# Altium integrated library TI Amplifiers and Linear Operational Amplifier Precision Amplifier Part Two.IntLib: 2300 symbols (part 26 of 81)
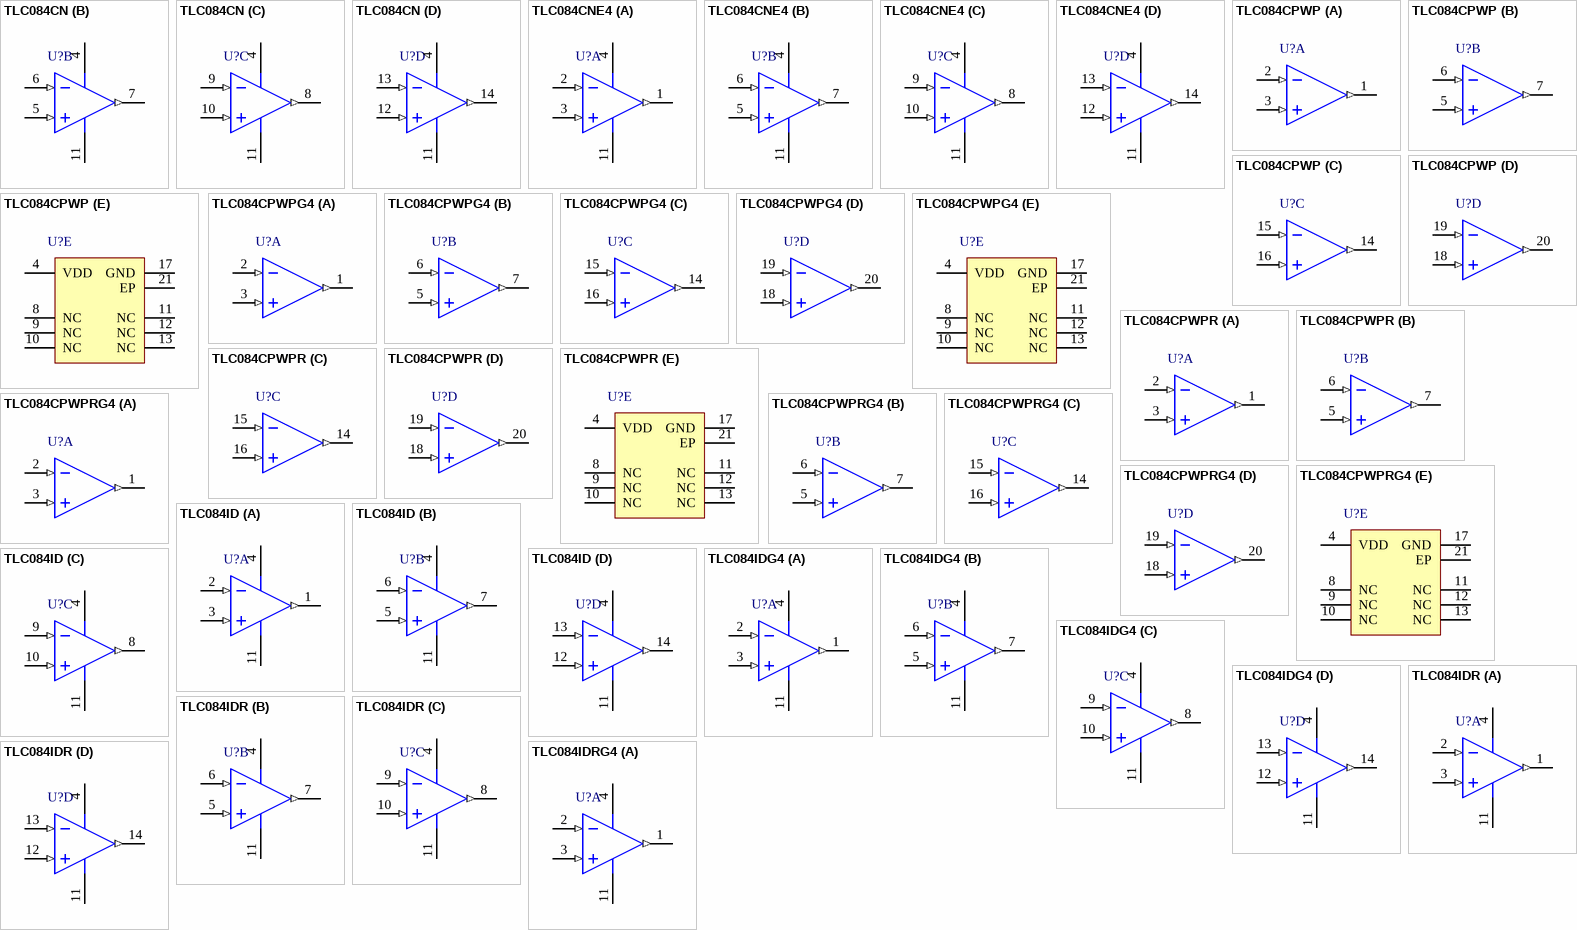
[diagram p161: symbols TLC084CN to TLC084IDRG4]

## TLC084CN
designator U?
Quad Wide Bandwidth High Output Drive Single Supply Operational Amplifier, 4.5 to 16 V, 0 to 70 degC, 14-pin DIP (N14), Pb-Free (RoHS); Manufacturer: Texas Instruments; PartNumber: TLC084CN; CMRR(Min)(dB): 80; GBW(Typ)(MHz): 10; IIB(Max)(pA): 50; Iq per channel(Max)(mA): 2.5; Number of Channels: 4; Offset Drift(Typ)(uV/C): 1.2; Packing: TUBE; Rating: Catalog; Slew Rate(Typ)(V/us): 16; Sub Family: High Output Current Amplifier (>=50mA), Low Noise Amp (<=10nV/rtHz), Precision Amplifier; Total Supply Voltage(Min)(+5V is 5, +/-5V is 10): 4.5; Vio (25C)(Max)(mV): 1.9; DatasheetVersion: SLOS254F; PackageVersion: 4040049/E, 12/2002; PackageReference: N14; PackageDescription: 14-Pin Plastic In-Line, Body 19.305 x 6.35 mm, Pitch 2.54 mm; Supplier 1: Digi-Key; Supplier Part Number 1: 296-7283-5-ND; Supplier 2: Newark; Supplier Part Number 2: 76C6770; Supplier 3: Mouser; Supplier Part Number 3: 595-TLC084CN; Eco-Plan: Pb-Free (RoHS); Total Supply Voltage(Max)(+5V is 5, +/-5V is 10): 16; Mounting Technology: Through Hole; Code_JEDEC: MS-001; ComponentLink1Description: Manufacturer URL; ComponentLink1URL: http://www.ti.com/; ComponentLink2Description: Datasheet; ComponentLink2URL: http://www.ti.com/lit/ds/symlink/tlc084.pdf; ComponentLink3Description: Package Specification; ComponentLink3URL: http://www.ti.com/lit/ml/mpdi002c/mpdi002c.pdf
footprint TI-N14 (DIP, 14-Leads, Body 19.305x6.35 mm, Pitch 2.54 mm)
pins on every part: 4 VDD (power), 11 GND (power)
part A pins: 1 OUT1 (out), 2 IN1- (in), 3 IN1+ (in)
part B pins: 5 IN2+ (in), 6 IN2- (in), 7 OUT2 (out)
part C pins: 8 OUT3 (out), 9 IN3- (in), 10 IN3+ (in)
part D pins: 12 IN4+ (in), 13 IN4- (in), 14 OUT4 (out)

## TLC084CNE4
designator U?
Quad Wide Bandwidth High Output Drive Single Supply Operational Amplifier, 4.5 to 16 V, 0 to 70 degC, 14-pin DIP (N14), Pb-Free (RoHS); Manufacturer: Texas Instruments; PartNumber: TLC084CNE4; CMRR(Min)(dB): 80; GBW(Typ)(MHz): 10; IIB(Max)(pA): 50; Iq per channel(Max)(mA): 2.5; Number of Channels: 4; Offset Drift(Typ)(uV/C): 1.2; Packing: TUBE; Rating: Catalog; Slew Rate(Typ)(V/us): 16; Sub Family: High Output Current Amplifier (>=50mA), Low Noise Amp (<=10nV/rtHz), Precision Amplifier; Total Supply Voltage(Min)(+5V is 5, +/-5V is 10): 4.5; Vio (25C)(Max)(mV): 1.9; DatasheetVersion: SLOS254F; PackageVersion: 4040049/E, 12/2002; PackageReference: N14; PackageDescription: 14-Pin Plastic In-Line, Body 19.305 x 6.35 mm, Pitch 2.54 mm; Supplier 1: Digi-Key; Supplier Part Number 1: TLC084CNE4-ND; Supplier 2: Mouser; Supplier Part Number 2: 595-TLC084CNE4; Eco-Plan: Pb-Free (RoHS); Total Supply Voltage(Max)(+5V is 5, +/-5V is 10): 16; Mounting Technology: Through Hole; Code_JEDEC: MS-001; ComponentLink1Description: Manufacturer URL; ComponentLink1URL: http://www.ti.com/; ComponentLink2Description: Datasheet; ComponentLink2URL: http://www.ti.com/lit/ds/symlink/tlc084.pdf; ComponentLink3Description: Package Specification; ComponentLink3URL: http://www.ti.com/lit/ml/mpdi002c/mpdi002c.pdf
footprint TI-N14 (DIP, 14-Leads, Body 19.305x6.35 mm, Pitch 2.54 mm)
pins on every part: 4 VDD (power), 11 GND (power)
part A pins: 1 OUT1 (out), 2 IN1- (in), 3 IN1+ (in)
part B pins: 5 IN2+ (in), 6 IN2- (in), 7 OUT2 (out)
part C pins: 8 OUT3 (out), 9 IN3- (in), 10 IN3+ (in)
part D pins: 12 IN4+ (in), 13 IN4- (in), 14 OUT4 (out)

## TLC084CPWP
designator U?
Quad Wide Bandwidth High Output Drive Single Supply Operational Amplifier, 4.5 to 16 V, 0 to 70 degC, 20-pin SOP (PWP20), Green (RoHS & no Sb/Br); Manufacturer: Texas Instruments; PartNumber: TLC084CPWP; CMRR(Min)(dB): 80; GBW(Typ)(MHz): 10; IIB(Max)(pA): 50; Iq per channel(Max)(mA): 2.5; Number of Channels: 4; Offset Drift(Typ)(uV/C): 1.2; Packing: TUBE; Rating: Catalog; Slew Rate(Typ)(V/us): 16; Sub Family: High Output Current Amplifier (>=50mA), Low Noise Amp (<=10nV/rtHz), Precision Amplifier; Total Supply Voltage(Min)(+5V is 5, +/-5V is 10): 4.5; Vio (25C)(Max)(mV): 1.9; DatasheetVersion: SLOS254F; PackageVersion: 4073225-4/I, 05/2011; PackageReference: PWP20-3005X2005TP; PackageDescription: 20-Pin Plastic Small Outline, Body 4.4 x 6.5 mm, Pitch 0.65 mm; Supplier 1: Digi-Key; Supplier Part Number 1: 296-7285-5-ND; Supplier 2: Mouser; Supplier Part Number 2: 595-TLC084CPWP; Eco-Plan: Green (RoHS & no Sb/Br); Total Supply Voltage(Max)(+5V is 5, +/-5V is 10): 16; Mounting Technology: Surface Mount; Code_JEDEC: MO-153; ComponentLink1Description: Manufacturer URL; ComponentLink1URL: http://www.ti.com/; ComponentLink2Description: Datasheet; ComponentLink2URL: http://www.ti.com/lit/ds/symlink/tlc084.pdf; ComponentLink3Description: Package Specification; ComponentLink3URL: http://www.ti.com/lit/ml/mhts001g/mhts001g.pdf
footprint TI-PWP20-3005X2005TP_N (SOP, 20-Leads, Body 6.5x4.4mm, Pitch 0.65mm, Thermal Pad 3.4x2.4mm, IPC Medium Density)
footprint TI-PWP20-3005X2005TP_L (SOP, 20-Leads, Body 6.5x4.4mm, Pitch 0.65mm, Thermal Pad 3.4x2.4mm, IPC High Density)
footprint TI-PWP20-3005X2005TP_M (SOP, 20-Leads, Body 6.5x4.4mm, Pitch 0.65mm, Thermal Pad 3.4x2.4mm, IPC Low Density)
part A pins: 1 OUT1 (out), 2 IN1- (in), 3 IN1+ (in)
part B pins: 5 IN2+ (in), 6 IN2- (in), 7 OUT2 (out)
part C pins: 14 OUT3 (out), 15 IN3- (in), 16 IN3+ (in)
part D pins: 18 IN4+ (in), 19 IN4- (in), 20 OUT4 (out)
part E pins: 4 VDD (power), 8 NC, 9 NC, 10 NC, 11 NC, 12 NC, 13 NC, 17 GND (power), 21 EP (power) "The PowerPAD must be connected to the most negative supply voltage (GND pin potential) of the device."

## TLC084CPWPG4
designator U?
Quad Wide Bandwidth High Output Drive Single Supply Operational Amplifier, 4.5 to 16 V, 0 to 70 degC, 20-pin SOP (PWP20), Green (RoHS & no Sb/Br); Manufacturer: Texas Instruments; PartNumber: TLC084CPWPG4; CMRR(Min)(dB): 80; GBW(Typ)(MHz): 10; IIB(Max)(pA): 50; Iq per channel(Max)(mA): 2.5; Number of Channels: 4; Offset Drift(Typ)(uV/C): 1.2; Packing: TUBE; Rating: Catalog; Slew Rate(Typ)(V/us): 16; Sub Family: High Output Current Amplifier (>=50mA), Low Noise Amp (<=10nV/rtHz), Precision Amplifier; Total Supply Voltage(Min)(+5V is 5, +/-5V is 10): 4.5; Vio (25C)(Max)(mV): 1.9; DatasheetVersion: SLOS254F; PackageVersion: 4073225-4/I, 05/2011; PackageReference: PWP20-3005X2005TP; PackageDescription: 20-Pin Plastic Small Outline, Body 4.4 x 6.5 mm, Pitch 0.65 mm; Supplier 1: Digi-Key; Supplier Part Number 1: TLC084CPWPG4-ND; Supplier 2: Mouser; Supplier Part Number 2: 595-TLC084CPWPG4; Eco-Plan: Green (RoHS & no Sb/Br); Total Supply Voltage(Max)(+5V is 5, +/-5V is 10): 16; Mounting Technology: Surface Mount; Code_JEDEC: MO-153; ComponentLink1Description: Manufacturer URL; ComponentLink1URL: http://www.ti.com/; ComponentLink2Description: Datasheet; ComponentLink2URL: http://www.ti.com/lit/ds/symlink/tlc084.pdf; ComponentLink3Description: Package Specification; ComponentLink3URL: http://www.ti.com/lit/ml/mhts001g/mhts001g.pdf
footprint TI-PWP20-3005X2005TP_N (SOP, 20-Leads, Body 6.5x4.4mm, Pitch 0.65mm, Thermal Pad 3.4x2.4mm, IPC Medium Density)
footprint TI-PWP20-3005X2005TP_L (SOP, 20-Leads, Body 6.5x4.4mm, Pitch 0.65mm, Thermal Pad 3.4x2.4mm, IPC High Density)
footprint TI-PWP20-3005X2005TP_M (SOP, 20-Leads, Body 6.5x4.4mm, Pitch 0.65mm, Thermal Pad 3.4x2.4mm, IPC Low Density)
part A pins: 1 OUT1 (out), 2 IN1- (in), 3 IN1+ (in)
part B pins: 5 IN2+ (in), 6 IN2- (in), 7 OUT2 (out)
part C pins: 14 OUT3 (out), 15 IN3- (in), 16 IN3+ (in)
part D pins: 18 IN4+ (in), 19 IN4- (in), 20 OUT4 (out)
part E pins: 4 VDD (power), 8 NC, 9 NC, 10 NC, 11 NC, 12 NC, 13 NC, 17 GND (power), 21 EP (power) "The PowerPAD must be connected to the most negative supply voltage (GND pin potential) of the device."

## TLC084CPWPR
designator U?
Quad Wide Bandwidth High Output Drive Single Supply Operational Amplifier, 4.5 to 16 V, 0 to 70 degC, 20-pin SOP (PWP20), Green (RoHS & no Sb/Br); Manufacturer: Texas Instruments; PartNumber: TLC084CPWPR; CMRR(Min)(dB): 80; GBW(Typ)(MHz): 10; IIB(Max)(pA): 50; Iq per channel(Max)(mA): 2.5; Number of Channels: 4; Offset Drift(Typ)(uV/C): 1.2; Packing: LARGE T&R; Rating: Catalog; Slew Rate(Typ)(V/us): 16; Sub Family: High Output Current Amplifier (>=50mA), Low Noise Amp (<=10nV/rtHz), Precision Amplifier; Total Supply Voltage(Min)(+5V is 5, +/-5V is 10): 4.5; Vio (25C)(Max)(mV): 1.9; DatasheetVersion: SLOS254F; PackageVersion: 4073225-4/I, 05/2011; PackageReference: PWP20-3005X2005TP; PackageDescription: 20-Pin Plastic Small Outline, Body 4.4 x 6.5 mm, Pitch 0.65 mm; Supplier 1: Digi-Key; Supplier Part Number 1: 296-7285-2-ND; Supplier 2: Digi-Key; Supplier Part Number 2: 296-7285-1-ND; Supplier 3: Digi-Key; Supplier Part Number 3: 296-7285-6-ND; Supplier 4: Mouser; Supplier Part Number 4: 595-TLC084CPWPR; Eco-Plan: Green (RoHS & no Sb/Br); Total Supply Voltage(Max)(+5V is 5, +/-5V is 10): 16; Mounting Technology: Surface Mount; Code_JEDEC: MO-153; ComponentLink1Description: Manufacturer URL; ComponentLink1URL: http://www.ti.com/; ComponentLink2Description: Datasheet; ComponentLink2URL: http://www.ti.com/lit/ds/symlink/tlc084.pdf; ComponentLink3Description: Package Specification; ComponentLink3URL: http://www.ti.com/lit/ml/mhts001g/mhts001g.pdf
footprint TI-PWP20-3005X2005TP_N (SOP, 20-Leads, Body 6.5x4.4mm, Pitch 0.65mm, Thermal Pad 3.4x2.4mm, IPC Medium Density)
footprint TI-PWP20-3005X2005TP_L (SOP, 20-Leads, Body 6.5x4.4mm, Pitch 0.65mm, Thermal Pad 3.4x2.4mm, IPC High Density)
footprint TI-PWP20-3005X2005TP_M (SOP, 20-Leads, Body 6.5x4.4mm, Pitch 0.65mm, Thermal Pad 3.4x2.4mm, IPC Low Density)
part A pins: 1 OUT1 (out), 2 IN1- (in), 3 IN1+ (in)
part B pins: 5 IN2+ (in), 6 IN2- (in), 7 OUT2 (out)
part C pins: 14 OUT3 (out), 15 IN3- (in), 16 IN3+ (in)
part D pins: 18 IN4+ (in), 19 IN4- (in), 20 OUT4 (out)
part E pins: 4 VDD (power), 8 NC, 9 NC, 10 NC, 11 NC, 12 NC, 13 NC, 17 GND (power), 21 EP (power) "The PowerPAD must be connected to the most negative supply voltage (GND pin potential) of the device."

## TLC084CPWPRG4
designator U?
Quad Wide Bandwidth High Output Drive Single Supply Operational Amplifier, 4.5 to 16 V, 0 to 70 degC, 20-pin SOP (PWP20), Green (RoHS & no Sb/Br); Manufacturer: Texas Instruments; PartNumber: TLC084CPWPRG4; CMRR(Min)(dB): 80; GBW(Typ)(MHz): 10; IIB(Max)(pA): 50; Iq per channel(Max)(mA): 2.5; Number of Channels: 4; Offset Drift(Typ)(uV/C): 1.2; Packing: LARGE T&R; Rating: Catalog; Slew Rate(Typ)(V/us): 16; Sub Family: High Output Current Amplifier (>=50mA), Low Noise Amp (<=10nV/rtHz), Precision Amplifier; Total Supply Voltage(Min)(+5V is 5, +/-5V is 10): 4.5; Vio (25C)(Max)(mV): 1.9; DatasheetVersion: SLOS254F; PackageVersion: 4073225-4/I, 05/2011; PackageReference: PWP20-3005X2005TP; PackageDescription: 20-Pin Plastic Small Outline, Body 4.4 x 6.5 mm, Pitch 0.65 mm; Supplier 1: Digi-Key; Supplier Part Number 1: TLC084CPWPRG4-ND; Supplier 2: Mouser; Supplier Part Number 2: 595-TLC084CPWPRG4; Eco-Plan: Green (RoHS & no Sb/Br); Total Supply Voltage(Max)(+5V is 5, +/-5V is 10): 16; Mounting Technology: Surface Mount; Code_JEDEC: MO-153; ComponentLink1Description: Manufacturer URL; ComponentLink1URL: http://www.ti.com/; ComponentLink2Description: Datasheet; ComponentLink2URL: http://www.ti.com/lit/ds/symlink/tlc084.pdf; ComponentLink3Description: Package Specification; ComponentLink3URL: http://www.ti.com/lit/ml/mhts001g/mhts001g.pdf
footprint TI-PWP20-3005X2005TP_N (SOP, 20-Leads, Body 6.5x4.4mm, Pitch 0.65mm, Thermal Pad 3.4x2.4mm, IPC Medium Density)
footprint TI-PWP20-3005X2005TP_L (SOP, 20-Leads, Body 6.5x4.4mm, Pitch 0.65mm, Thermal Pad 3.4x2.4mm, IPC High Density)
footprint TI-PWP20-3005X2005TP_M (SOP, 20-Leads, Body 6.5x4.4mm, Pitch 0.65mm, Thermal Pad 3.4x2.4mm, IPC Low Density)
part A pins: 1 OUT1 (out), 2 IN1- (in), 3 IN1+ (in)
part B pins: 5 IN2+ (in), 6 IN2- (in), 7 OUT2 (out)
part C pins: 14 OUT3 (out), 15 IN3- (in), 16 IN3+ (in)
part D pins: 18 IN4+ (in), 19 IN4- (in), 20 OUT4 (out)
part E pins: 4 VDD (power), 8 NC, 9 NC, 10 NC, 11 NC, 12 NC, 13 NC, 17 GND (power), 21 EP (power) "The PowerPAD must be connected to the most negative supply voltage (GND pin potential) of the device."

## TLC084ID
designator U?
Quad Wide Bandwidth High Output Drive Single Supply Operational Amplifier, 4.5 to 16 V, -40 to 125 degC, 14-pin SOIC (D14), Green (RoHS & no Sb/Br); Manufacturer: Texas Instruments; PartNumber: TLC084ID; CMRR(Min)(dB): 80; GBW(Typ)(MHz): 10; IIB(Max)(pA): 50; Iq per channel(Max)(mA): 2.5; Number of Channels: 4; Offset Drift(Typ)(uV/C): 1.2; Packing: TUBE; Rating: Catalog; Slew Rate(Typ)(V/us): 16; Sub Family: High Output Current Amplifier (>=50mA), Low Noise Amp (<=10nV/rtHz), Precision Amplifier; Total Supply Voltage(Min)(+5V is 5, +/-5V is 10): 4.5; Vio (25C)(Max)(mV): 1.9; DatasheetVersion: SLOS254F; PackageVersion: 4040047-5/M, 06/2011; PackageReference: D14; PackageDescription: 14-Pin Plastic Small Outline, Body 8.65 x 3.9 mm, Pitch 1.27 mm; Supplier 1: Digi-Key; Supplier Part Number 1: 296-7287-5-ND; Supplier 2: Newark; Supplier Part Number 2: 76C6773; Supplier 3: Mouser; Supplier Part Number 3: 595-TLC084ID; Eco-Plan: Green (RoHS & no Sb/Br); Total Supply Voltage(Max)(+5V is 5, +/-5V is 10): 16; Mounting Technology: Surface Mount; Code_JEDEC: MS-012; ComponentLink1Description: Manufacturer URL; ComponentLink1URL: http://www.ti.com/; ComponentLink2Description: Datasheet; ComponentLink2URL: http://www.ti.com/lit/ds/symlink/tlc084.pdf; ComponentLink3Description: Package Specification; ComponentLink3URL: http://www.ti.com/lit/ml/mpds177g/mpds177g.pdf
footprint TI-D14_N (SOIC, 14-Leads, Body 8.65x3.9mm, Pitch 1.27mm, IPC Medium Density)
footprint TI-D14_L (SOIC, 14-Leads, Body 8.65x3.9mm, Pitch 1.27mm, IPC High Density)
footprint TI-D14_M (SOIC, 14-Leads, Body 8.65x3.9mm, Pitch 1.27mm, IPC Low Density)
pins on every part: 4 VDD (power), 11 GND (power)
part A pins: 1 OUT1 (out), 2 IN1- (in), 3 IN1+ (in)
part B pins: 5 IN2+ (in), 6 IN2- (in), 7 OUT2 (out)
part C pins: 8 OUT3 (out), 9 IN3- (in), 10 IN3+ (in)
part D pins: 12 IN4+ (in), 13 IN4- (in), 14 OUT4 (out)

## TLC084IDG4
designator U?
Quad Wide Bandwidth High Output Drive Single Supply Operational Amplifier, 4.5 to 16 V, -40 to 125 degC, 14-pin SOIC (D14), Green (RoHS & no Sb/Br); Manufacturer: Texas Instruments; PartNumber: TLC084IDG4; CMRR(Min)(dB): 80; GBW(Typ)(MHz): 10; IIB(Max)(pA): 50; Iq per channel(Max)(mA): 2.5; Number of Channels: 4; Offset Drift(Typ)(uV/C): 1.2; Packing: TUBE; Rating: Catalog; Slew Rate(Typ)(V/us): 16; Sub Family: High Output Current Amplifier (>=50mA), Low Noise Amp (<=10nV/rtHz), Precision Amplifier; Total Supply Voltage(Min)(+5V is 5, +/-5V is 10): 4.5; Vio (25C)(Max)(mV): 1.9; DatasheetVersion: SLOS254F; PackageVersion: 4040047-5/M, 06/2011; PackageReference: D14; PackageDescription: 14-Pin Plastic Small Outline, Body 8.65 x 3.9 mm, Pitch 1.27 mm; Supplier 1: Digi-Key; Supplier Part Number 1: TLC084IDG4-ND; Supplier 2: Mouser; Supplier Part Number 2: 595-TLC084IDG4; Eco-Plan: Green (RoHS & no Sb/Br); Total Supply Voltage(Max)(+5V is 5, +/-5V is 10): 16; Mounting Technology: Surface Mount; Code_JEDEC: MS-012; ComponentLink1Description: Manufacturer URL; ComponentLink1URL: http://www.ti.com/; ComponentLink2Description: Datasheet; ComponentLink2URL: http://www.ti.com/lit/ds/symlink/tlc084.pdf; ComponentLink3Description: Package Specification; ComponentLink3URL: http://www.ti.com/lit/ml/mpds177g/mpds177g.pdf
footprint TI-D14_N (SOIC, 14-Leads, Body 8.65x3.9mm, Pitch 1.27mm, IPC Medium Density)
footprint TI-D14_L (SOIC, 14-Leads, Body 8.65x3.9mm, Pitch 1.27mm, IPC High Density)
footprint TI-D14_M (SOIC, 14-Leads, Body 8.65x3.9mm, Pitch 1.27mm, IPC Low Density)
pins on every part: 4 VDD (power), 11 GND (power)
part A pins: 1 OUT1 (out), 2 IN1- (in), 3 IN1+ (in)
part B pins: 5 IN2+ (in), 6 IN2- (in), 7 OUT2 (out)
part C pins: 8 OUT3 (out), 9 IN3- (in), 10 IN3+ (in)
part D pins: 12 IN4+ (in), 13 IN4- (in), 14 OUT4 (out)

## TLC084IDR
designator U?
Quad Wide Bandwidth High Output Drive Single Supply Operational Amplifier, 4.5 to 16 V, -40 to 125 degC, 14-pin SOIC (D14), Green (RoHS & no Sb/Br); Manufacturer: Texas Instruments; PartNumber: TLC084IDR; CMRR(Min)(dB): 80; GBW(Typ)(MHz): 10; IIB(Max)(pA): 50; Iq per channel(Max)(mA): 2.5; Number of Channels: 4; Offset Drift(Typ)(uV/C): 1.2; Packing: LARGE T&R; Rating: Catalog; Slew Rate(Typ)(V/us): 16; Sub Family: High Output Current Amplifier (>=50mA), Low Noise Amp (<=10nV/rtHz), Precision Amplifier; Total Supply Voltage(Min)(+5V is 5, +/-5V is 10): 4.5; Vio (25C)(Max)(mV): 1.9; DatasheetVersion: SLOS254F; PackageVersion: 4040047-5/M, 06/2011; PackageReference: D14; PackageDescription: 14-Pin Plastic Small Outline, Body 8.65 x 3.9 mm, Pitch 1.27 mm; Supplier 1: Digi-Key; Supplier Part Number 1: 296-7287-2-ND; Supplier 2: Digi-Key; Supplier Part Number 2: 296-7287-1-ND; Supplier 3: Digi-Key; Supplier Part Number 3: 296-7287-6-ND; Supplier 4: Mouser; Supplier Part Number 4: 595-TLC084IDR; Eco-Plan: Green (RoHS & no Sb/Br); Total Supply Voltage(Max)(+5V is 5, +/-5V is 10): 16; Mounting Technology: Surface Mount; Code_JEDEC: MS-012; ComponentLink1Description: Manufacturer URL; ComponentLink1URL: http://www.ti.com/; ComponentLink2Description: Datasheet; ComponentLink2URL: http://www.ti.com/lit/ds/symlink/tlc084.pdf; ComponentLink3Description: Package Specification; ComponentLink3URL: http://www.ti.com/lit/ml/mpds177g/mpds177g.pdf
footprint TI-D14_N (SOIC, 14-Leads, Body 8.65x3.9mm, Pitch 1.27mm, IPC Medium Density)
footprint TI-D14_L (SOIC, 14-Leads, Body 8.65x3.9mm, Pitch 1.27mm, IPC High Density)
footprint TI-D14_M (SOIC, 14-Leads, Body 8.65x3.9mm, Pitch 1.27mm, IPC Low Density)
pins on every part: 4 VDD (power), 11 GND (power)
part A pins: 1 OUT1 (out), 2 IN1- (in), 3 IN1+ (in)
part B pins: 5 IN2+ (in), 6 IN2- (in), 7 OUT2 (out)
part C pins: 8 OUT3 (out), 9 IN3- (in), 10 IN3+ (in)
part D pins: 12 IN4+ (in), 13 IN4- (in), 14 OUT4 (out)

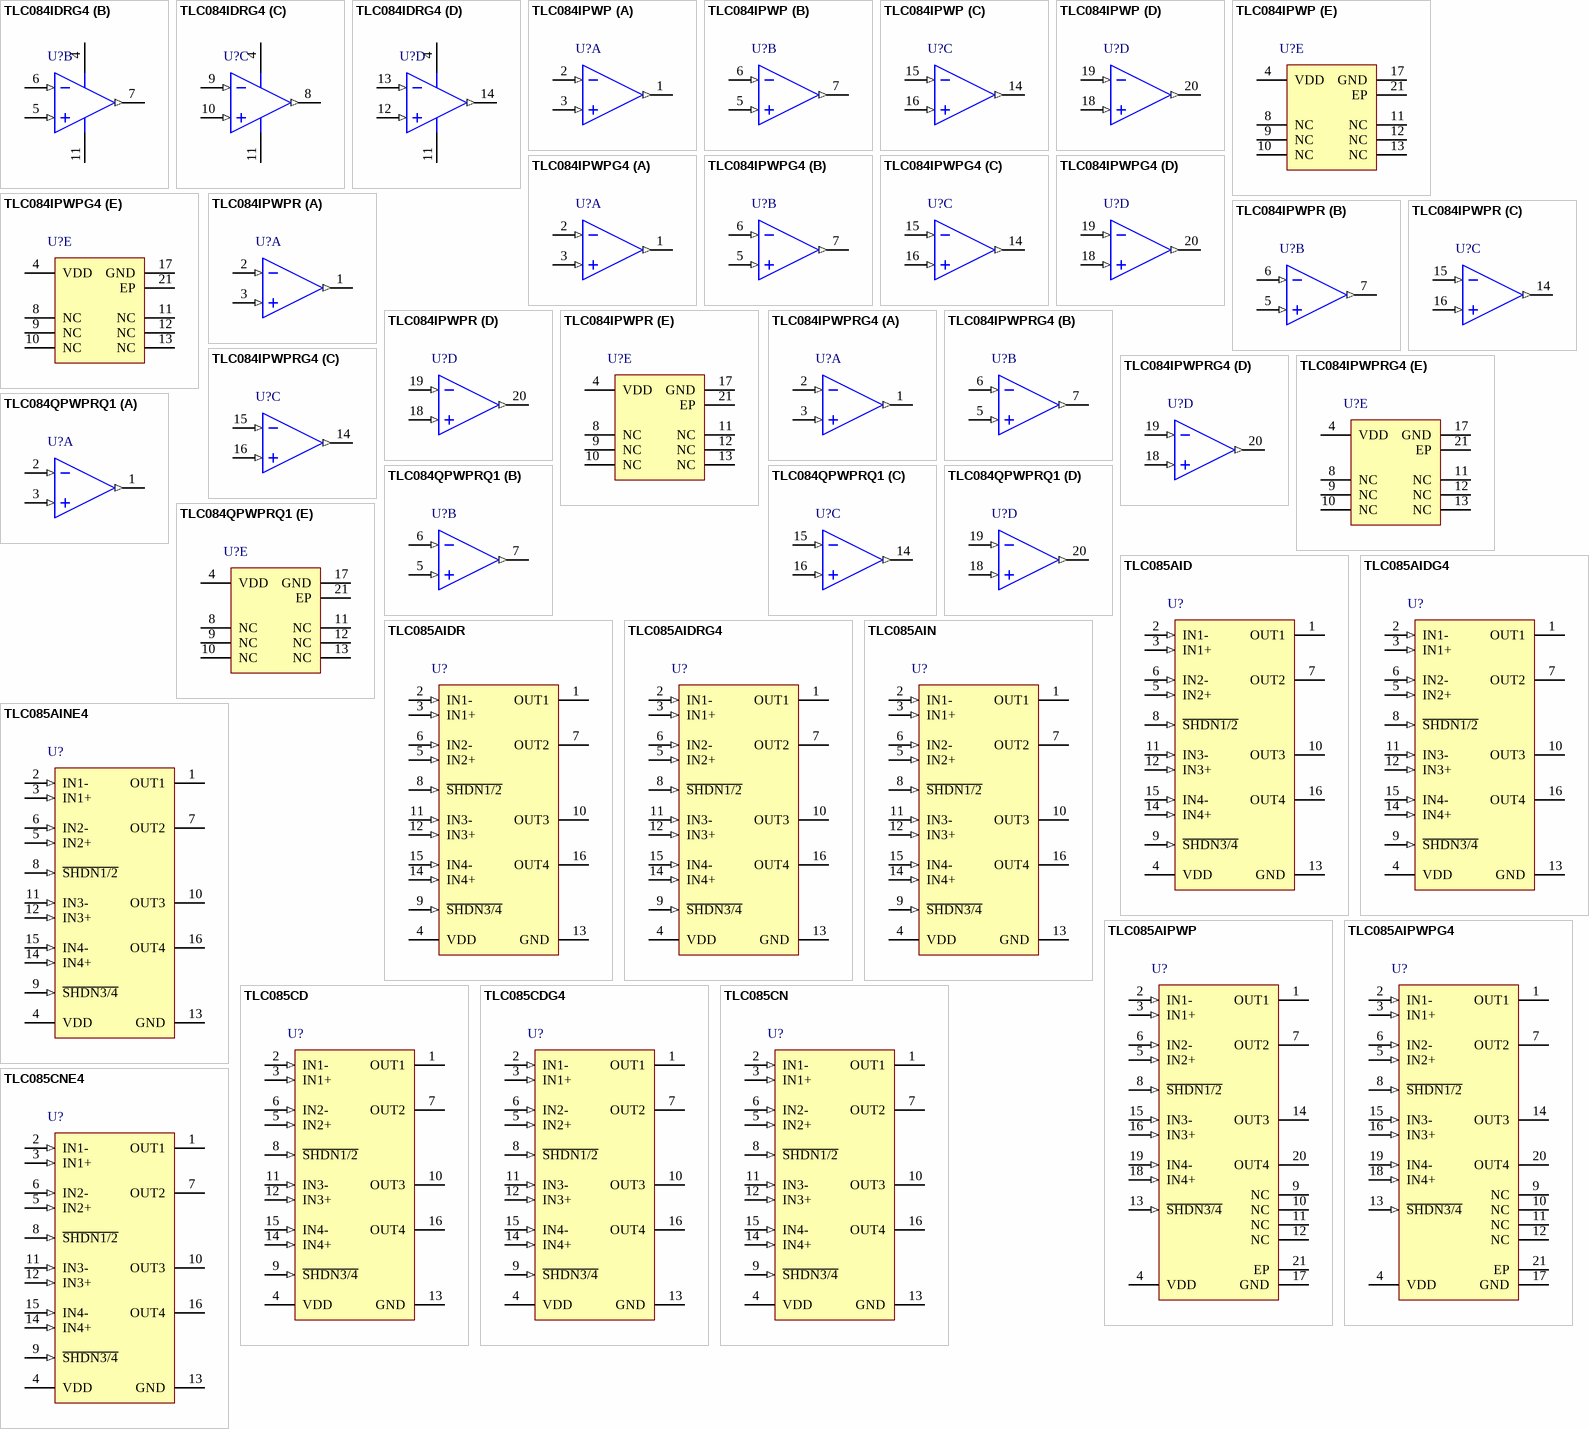
[diagram p43: symbols TLC084IDRG4 to TLC085CNE4]

## TLC084IDRG4
designator U?
Quad Wide Bandwidth High Output Drive Single Supply Operational Amplifier, 4.5 to 16 V, -40 to 125 degC, 14-pin SOIC (D14), Green (RoHS & no Sb/Br); Manufacturer: Texas Instruments; PartNumber: TLC084IDRG4; CMRR(Min)(dB): 80; GBW(Typ)(MHz): 10; IIB(Max)(pA): 50; Iq per channel(Max)(mA): 2.5; Number of Channels: 4; Offset Drift(Typ)(uV/C): 1.2; Packing: LARGE T&R; Rating: Catalog; Slew Rate(Typ)(V/us): 16; Sub Family: High Output Current Amplifier (>=50mA), Low Noise Amp (<=10nV/rtHz), Precision Amplifier; Total Supply Voltage(Min)(+5V is 5, +/-5V is 10): 4.5; Vio (25C)(Max)(mV): 1.9; DatasheetVersion: SLOS254F; PackageVersion: 4040047-5/M, 06/2011; PackageReference: D14; PackageDescription: 14-Pin Plastic Small Outline, Body 8.65 x 3.9 mm, Pitch 1.27 mm; Supplier 1: Digi-Key; Supplier Part Number 1: TLC084IDRG4-ND; Supplier 2: Mouser; Supplier Part Number 2: 595-TLC084IDRG4; Eco-Plan: Green (RoHS & no Sb/Br); Total Supply Voltage(Max)(+5V is 5, +/-5V is 10): 16; Mounting Technology: Surface Mount; Code_JEDEC: MS-012; ComponentLink1Description: Manufacturer URL; ComponentLink1URL: http://www.ti.com/; ComponentLink2Description: Datasheet; ComponentLink2URL: http://www.ti.com/lit/ds/symlink/tlc084.pdf; ComponentLink3Description: Package Specification; ComponentLink3URL: http://www.ti.com/lit/ml/mpds177g/mpds177g.pdf
footprint TI-D14_N (SOIC, 14-Leads, Body 8.65x3.9mm, Pitch 1.27mm, IPC Medium Density)
footprint TI-D14_L (SOIC, 14-Leads, Body 8.65x3.9mm, Pitch 1.27mm, IPC High Density)
footprint TI-D14_M (SOIC, 14-Leads, Body 8.65x3.9mm, Pitch 1.27mm, IPC Low Density)
pins on every part: 4 VDD (power), 11 GND (power)
part A pins: 1 OUT1 (out), 2 IN1- (in), 3 IN1+ (in)
part B pins: 5 IN2+ (in), 6 IN2- (in), 7 OUT2 (out)
part C pins: 8 OUT3 (out), 9 IN3- (in), 10 IN3+ (in)
part D pins: 12 IN4+ (in), 13 IN4- (in), 14 OUT4 (out)

## TLC084IPWP
designator U?
Quad Wide Bandwidth High Output Drive Single Supply Operational Amplifier, 4.5 to 16 V, -40 to 125 degC, 20-pin SOP (PWP20), Green (RoHS & no Sb/Br); Manufacturer: Texas Instruments; PartNumber: TLC084IPWP; CMRR(Min)(dB): 80; GBW(Typ)(MHz): 10; IIB(Max)(pA): 50; Iq per channel(Max)(mA): 2.5; Number of Channels: 4; Offset Drift(Typ)(uV/C): 1.2; Packing: TUBE; Rating: Catalog; Slew Rate(Typ)(V/us): 16; Sub Family: High Output Current Amplifier (>=50mA), Low Noise Amp (<=10nV/rtHz), Precision Amplifier; Total Supply Voltage(Min)(+5V is 5, +/-5V is 10): 4.5; Vio (25C)(Max)(mV): 1.9; DatasheetVersion: SLOS254F; PackageVersion: 4073225-4/I, 05/2011; PackageReference: PWP20-3005X2005TP; PackageDescription: 20-Pin Plastic Small Outline, Body 4.4 x 6.5 mm, Pitch 0.65 mm; Supplier 1: Digi-Key; Supplier Part Number 1: 296-7288-5-ND; Supplier 2: Mouser; Supplier Part Number 2: 595-TLC084IPWP; Eco-Plan: Green (RoHS & no Sb/Br); Total Supply Voltage(Max)(+5V is 5, +/-5V is 10): 16; Mounting Technology: Surface Mount; Code_JEDEC: MO-153; ComponentLink1Description: Manufacturer URL; ComponentLink1URL: http://www.ti.com/; ComponentLink2Description: Datasheet; ComponentLink2URL: http://www.ti.com/lit/ds/symlink/tlc084.pdf; ComponentLink3Description: Package Specification; ComponentLink3URL: http://www.ti.com/lit/ml/mhts001g/mhts001g.pdf
footprint TI-PWP20-3005X2005TP_N (SOP, 20-Leads, Body 6.5x4.4mm, Pitch 0.65mm, Thermal Pad 3.4x2.4mm, IPC Medium Density)
footprint TI-PWP20-3005X2005TP_L (SOP, 20-Leads, Body 6.5x4.4mm, Pitch 0.65mm, Thermal Pad 3.4x2.4mm, IPC High Density)
footprint TI-PWP20-3005X2005TP_M (SOP, 20-Leads, Body 6.5x4.4mm, Pitch 0.65mm, Thermal Pad 3.4x2.4mm, IPC Low Density)
part A pins: 1 OUT1 (out), 2 IN1- (in), 3 IN1+ (in)
part B pins: 5 IN2+ (in), 6 IN2- (in), 7 OUT2 (out)
part C pins: 14 OUT3 (out), 15 IN3- (in), 16 IN3+ (in)
part D pins: 18 IN4+ (in), 19 IN4- (in), 20 OUT4 (out)
part E pins: 4 VDD (power), 8 NC, 9 NC, 10 NC, 11 NC, 12 NC, 13 NC, 17 GND (power), 21 EP (power) "The PowerPAD must be connected to the most negative supply voltage (GND pin potential) of the device."

## TLC084IPWPG4
designator U?
Quad Wide Bandwidth High Output Drive Single Supply Operational Amplifier, 4.5 to 16 V, -40 to 125 degC, 20-pin SOP (PWP20), Green (RoHS & no Sb/Br); Manufacturer: Texas Instruments; PartNumber: TLC084IPWPG4; CMRR(Min)(dB): 80; GBW(Typ)(MHz): 10; IIB(Max)(pA): 50; Iq per channel(Max)(mA): 2.5; Number of Channels: 4; Offset Drift(Typ)(uV/C): 1.2; Packing: TUBE; Rating: Catalog; Slew Rate(Typ)(V/us): 16; Sub Family: High Output Current Amplifier (>=50mA), Low Noise Amp (<=10nV/rtHz), Precision Amplifier; Total Supply Voltage(Min)(+5V is 5, +/-5V is 10): 4.5; Vio (25C)(Max)(mV): 1.9; DatasheetVersion: SLOS254F; PackageVersion: 4073225-4/I, 05/2011; PackageReference: PWP20-3005X2005TP; PackageDescription: 20-Pin Plastic Small Outline, Body 4.4 x 6.5 mm, Pitch 0.65 mm; Supplier 1: Digi-Key; Supplier Part Number 1: TLC084IPWPG4-ND; Supplier 2: Mouser; Supplier Part Number 2: 595-TLC084IPWPG4; Eco-Plan: Green (RoHS & no Sb/Br); Total Supply Voltage(Max)(+5V is 5, +/-5V is 10): 16; Mounting Technology: Surface Mount; Code_JEDEC: MO-153; ComponentLink1Description: Manufacturer URL; ComponentLink1URL: http://www.ti.com/; ComponentLink2Description: Datasheet; ComponentLink2URL: http://www.ti.com/lit/ds/symlink/tlc084.pdf; ComponentLink3Description: Package Specification; ComponentLink3URL: http://www.ti.com/lit/ml/mhts001g/mhts001g.pdf
footprint TI-PWP20-3005X2005TP_N (SOP, 20-Leads, Body 6.5x4.4mm, Pitch 0.65mm, Thermal Pad 3.4x2.4mm, IPC Medium Density)
footprint TI-PWP20-3005X2005TP_L (SOP, 20-Leads, Body 6.5x4.4mm, Pitch 0.65mm, Thermal Pad 3.4x2.4mm, IPC High Density)
footprint TI-PWP20-3005X2005TP_M (SOP, 20-Leads, Body 6.5x4.4mm, Pitch 0.65mm, Thermal Pad 3.4x2.4mm, IPC Low Density)
part A pins: 1 OUT1 (out), 2 IN1- (in), 3 IN1+ (in)
part B pins: 5 IN2+ (in), 6 IN2- (in), 7 OUT2 (out)
part C pins: 14 OUT3 (out), 15 IN3- (in), 16 IN3+ (in)
part D pins: 18 IN4+ (in), 19 IN4- (in), 20 OUT4 (out)
part E pins: 4 VDD (power), 8 NC, 9 NC, 10 NC, 11 NC, 12 NC, 13 NC, 17 GND (power), 21 EP (power) "The PowerPAD must be connected to the most negative supply voltage (GND pin potential) of the device."

## TLC084IPWPR
designator U?
Quad Wide Bandwidth High Output Drive Single Supply Operational Amplifier, 4.5 to 16 V, -40 to 125 degC, 20-pin SOP (PWP20), Green (RoHS & no Sb/Br); Manufacturer: Texas Instruments; PartNumber: TLC084IPWPR; CMRR(Min)(dB): 80; GBW(Typ)(MHz): 10; IIB(Max)(pA): 50; Iq per channel(Max)(mA): 2.5; Number of Channels: 4; Offset Drift(Typ)(uV/C): 1.2; Packing: LARGE T&R; Rating: Catalog; Slew Rate(Typ)(V/us): 16; Sub Family: High Output Current Amplifier (>=50mA), Low Noise Amp (<=10nV/rtHz), Precision Amplifier; Total Supply Voltage(Min)(+5V is 5, +/-5V is 10): 4.5; Vio (25C)(Max)(mV): 1.9; DatasheetVersion: SLOS254F; PackageVersion: 4073225-4/I, 05/2011; PackageReference: PWP20-3005X2005TP; PackageDescription: 20-Pin Plastic Small Outline, Body 4.4 x 6.5 mm, Pitch 0.65 mm; Supplier 1: Digi-Key; Supplier Part Number 1: TLC084IPWPR-ND; Supplier 2: Mouser; Supplier Part Number 2: 595-TLC084IPWPR; Eco-Plan: Green (RoHS & no Sb/Br); Total Supply Voltage(Max)(+5V is 5, +/-5V is 10): 16; Mounting Technology: Surface Mount; Code_JEDEC: MO-153; ComponentLink1Description: Manufacturer URL; ComponentLink1URL: http://www.ti.com/; ComponentLink2Description: Datasheet; ComponentLink2URL: http://www.ti.com/lit/ds/symlink/tlc084.pdf; ComponentLink3Description: Package Specification; ComponentLink3URL: http://www.ti.com/lit/ml/mhts001g/mhts001g.pdf
footprint TI-PWP20-3005X2005TP_N (SOP, 20-Leads, Body 6.5x4.4mm, Pitch 0.65mm, Thermal Pad 3.4x2.4mm, IPC Medium Density)
footprint TI-PWP20-3005X2005TP_L (SOP, 20-Leads, Body 6.5x4.4mm, Pitch 0.65mm, Thermal Pad 3.4x2.4mm, IPC High Density)
footprint TI-PWP20-3005X2005TP_M (SOP, 20-Leads, Body 6.5x4.4mm, Pitch 0.65mm, Thermal Pad 3.4x2.4mm, IPC Low Density)
part A pins: 1 OUT1 (out), 2 IN1- (in), 3 IN1+ (in)
part B pins: 5 IN2+ (in), 6 IN2- (in), 7 OUT2 (out)
part C pins: 14 OUT3 (out), 15 IN3- (in), 16 IN3+ (in)
part D pins: 18 IN4+ (in), 19 IN4- (in), 20 OUT4 (out)
part E pins: 4 VDD (power), 8 NC, 9 NC, 10 NC, 11 NC, 12 NC, 13 NC, 17 GND (power), 21 EP (power) "The PowerPAD must be connected to the most negative supply voltage (GND pin potential) of the device."

## TLC084IPWPRG4
designator U?
Quad Wide Bandwidth High Output Drive Single Supply Operational Amplifier, 4.5 to 16 V, -40 to 125 degC, 20-pin SOP (PWP20), Green (RoHS & no Sb/Br); Manufacturer: Texas Instruments; PartNumber: TLC084IPWPRG4; CMRR(Min)(dB): 80; GBW(Typ)(MHz): 10; IIB(Max)(pA): 50; Iq per channel(Max)(mA): 2.5; Number of Channels: 4; Offset Drift(Typ)(uV/C): 1.2; Packing: LARGE T&R; Rating: Catalog; Slew Rate(Typ)(V/us): 16; Sub Family: High Output Current Amplifier (>=50mA), Low Noise Amp (<=10nV/rtHz), Precision Amplifier; Total Supply Voltage(Min)(+5V is 5, +/-5V is 10): 4.5; Vio (25C)(Max)(mV): 1.9; DatasheetVersion: SLOS254F; PackageVersion: 4073225-4/I, 05/2011; PackageReference: PWP20-3005X2005TP; PackageDescription: 20-Pin Plastic Small Outline, Body 4.4 x 6.5 mm, Pitch 0.65 mm; Supplier 1: Digi-Key; Supplier Part Number 1: TLC084IPWPRG4-ND; Supplier 2: Mouser; Supplier Part Number 2: 595-TLC084IPWPRG4; Eco-Plan: Green (RoHS & no Sb/Br); Total Supply Voltage(Max)(+5V is 5, +/-5V is 10): 16; Mounting Technology: Surface Mount; Code_JEDEC: MO-153; ComponentLink1Description: Manufacturer URL; ComponentLink1URL: http://www.ti.com/; ComponentLink2Description: Datasheet; ComponentLink2URL: http://www.ti.com/lit/ds/symlink/tlc084.pdf; ComponentLink3Description: Package Specification; ComponentLink3URL: http://www.ti.com/lit/ml/mhts001g/mhts001g.pdf
footprint TI-PWP20-3005X2005TP_N (SOP, 20-Leads, Body 6.5x4.4mm, Pitch 0.65mm, Thermal Pad 3.4x2.4mm, IPC Medium Density)
footprint TI-PWP20-3005X2005TP_L (SOP, 20-Leads, Body 6.5x4.4mm, Pitch 0.65mm, Thermal Pad 3.4x2.4mm, IPC High Density)
footprint TI-PWP20-3005X2005TP_M (SOP, 20-Leads, Body 6.5x4.4mm, Pitch 0.65mm, Thermal Pad 3.4x2.4mm, IPC Low Density)
part A pins: 1 OUT1 (out), 2 IN1- (in), 3 IN1+ (in)
part B pins: 5 IN2+ (in), 6 IN2- (in), 7 OUT2 (out)
part C pins: 14 OUT3 (out), 15 IN3- (in), 16 IN3+ (in)
part D pins: 18 IN4+ (in), 19 IN4- (in), 20 OUT4 (out)
part E pins: 4 VDD (power), 8 NC, 9 NC, 10 NC, 11 NC, 12 NC, 13 NC, 17 GND (power), 21 EP (power) "The PowerPAD must be connected to the most negative supply voltage (GND pin potential) of the device."

## TLC084QPWPRQ1
designator U?
Automotive Catalog Wide-Bandwidth High-Output-Drive Single-Supply Operational Amplifier, 4.5 to 16 V, -40 to 125 degC, 20-pin SOP (PWP20), Green (RoHS & no Sb/Br); Manufacturer: Texas Instruments; PartNumber: TLC084QPWPRQ1; CMRR(Min)(dB): 70; GBW(Typ)(MHz): 10; IIB(Max)(pA): 50; Iq per channel(Max)(mA): 2.5; Number of Channels: 4; Offset Drift(Typ)(uV/C): 1.2; Packing: LARGE T&R; Slew Rate(Typ)(V/us): 16; Sub Family: High Output Current Amplifier (>=50mA), Low Noise Amp (<=10nV/rtHz), Precision Amplifier; Total Supply Voltage(Min)(+5V is 5, +/-5V is 10): 4.5; Vio (25C)(Max)(mV): 1.9; DatasheetVersion: SLOS510B; PackageVersion: 4073225-4/1, 05/2011; PackageReference: PWP20-3605X2005TP; PackageDescription: 20-Pin Plastic Small Outline, Body 4.4 x 6.5 mm, Pitch 0.65 mm; Supplier 1: Digi-Key; Supplier Part Number 1: TLC084QPWPRQ1-ND; Supplier 2: Mouser; Supplier Part Number 2: 595-TLC084QPWPRQ1; Eco-Plan: Green (RoHS & no Sb/Br); Rating: Automotive; Total Supply Voltage(Max)(+5V is 5, +/-5V is 10): 16; Mounting Technology: Surface Mount; Code_JEDEC: MO-153; ComponentLink1Description: Manufacturer URL; ComponentLink1URL: http://www.ti.com/; ComponentLink2Description: Datasheet; ComponentLink2URL: http://www.ti.com/lit/ds/symlink/tlc084-q1.pdf; ComponentLink3Description: Package Specification; ComponentLink3URL: http://www.ti.com/litv/pdf/mhts001g
footprint TI-PWP20-3605X2005TP_N (SOP, 20-Leads, Body 6.5x4.4mm, Pitch 0.65mm, Thermal Pad 3.4x2.4mm, IPC Medium Density)
footprint TI-PWP20-3605X2005TP_L (SOP, 20-Leads, Body 6.5x4.4mm, Pitch 0.65mm, Thermal Pad 3.4x2.4mm, IPC High Density)
footprint TI-PWP20-3605X2005TP_M (SOP, 20-Leads, Body 6.5x4.4mm, Pitch 0.65mm, Thermal Pad 3.4x2.4mm, IPC Low Density)
part A pins: 1 OUT1 (out), 2 IN1- (in), 3 IN1+ (in)
part B pins: 5 IN2+ (in), 6 IN2- (in), 7 OUT2 (out)
part C pins: 14 OUT3 (out), 15 IN3- (in), 16 IN3+ (in)
part D pins: 18 IN4+ (in), 19 IN4- (in), 20 OUT4 (out)
part E pins: 4 VDD (power), 8 NC, 9 NC, 10 NC, 11 NC, 12 NC, 13 NC, 17 GND (power), 21 EP (power) "The PowerPAD must be connected to the most negative supply voltage (GND pin potential) of the device."

## TLC085AID
designator U?
Quad Wide Bandwidth High Output Drive Single Supply Operational Amplifier, 4.5 to 16 V, -40 to 125 degC, 16-pin SOIC (D16), Green (RoHS & no Sb/Br); Manufacturer: Texas Instruments; PartNumber: TLC085AID; CMRR(Min)(dB): 80; GBW(Typ)(MHz): 10; IIB(Max)(pA): 50; Iq per channel(Max)(mA): 2.5; Number of Channels: 4; Offset Drift(Typ)(uV/C): 1.2; Packing: TUBE; Rating: Catalog; Slew Rate(Typ)(V/us): 16; Sub Family: High Output Current Amplifier (>=50mA), Low Noise Amp (<=10nV/rtHz), Precision Amplifier; Total Supply Voltage(Min)(+5V is 5, +/-5V is 10): 4.5; Vio (25C)(Max)(mV): 1.4; DatasheetVersion: SLOS254F; PackageVersion: 4040047-6/M, 06/2011; PackageReference: D16; PackageDescription: 16-Pin Plastic Small Outline, Body 9.9 x 3.9 mm, Pitch 1.27 mm; Supplier 1: Digi-Key; Supplier Part Number 1: 296-7289-5-ND; Supplier 2: Newark; Supplier Part Number 2: 76C6778; Supplier 3: Mouser; Supplier Part Number 3: 595-TLC085AID; Eco-Plan: Green (RoHS & no Sb/Br); Total Supply Voltage(Max)(+5V is 5, +/-5V is 10): 16; Mounting Technology: Surface Mount; Code_JEDEC: MS-012; ComponentLink1Description: Manufacturer URL; ComponentLink1URL: http://www.ti.com/; ComponentLink2Description: Datasheet; ComponentLink2URL: http://www.ti.com/lit/ds/symlink/tlc085a.pdf; ComponentLink3Description: Package Specification; ComponentLink3URL: http://www.ti.com/litv/pdf/mpds178g
footprint TI-D16_N (SOIC, 16-Leads, Body 9.9x3.9mm, Pitch 1.27mm, IPC Medium Density)
footprint TI-D16_L (SOIC, 16-Leads, Body 9.9x3.9mm, Pitch 1.27mm, IPC High Density)
footprint TI-D16_M (SOIC, 16-Leads, Body 9.9x3.9mm, Pitch 1.27mm, IPC Low Density)
pins: 1 OUT1 (hiz), 2 IN1- (in), 3 IN1+ (in), 4 VDD (power), 5 IN2+ (in), 6 IN2- (in), 7 OUT2 (hiz), 8 ~{SHDN1/2} (in), 9 ~{SHDN3/4} (in), 10 OUT3 (hiz), 11 IN3- (in), 12 IN3+ (in), 13 GND (power), 14 IN4+ (in), 15 IN4- (in), 16 OUT4 (hiz)

## TLC085AIDG4
designator U?
Quad Wide Bandwidth High Output Drive Single Supply Operational Amplifier, 4.5 to 16 V, -40 to 125 degC, 16-pin SOIC (D16), Green (RoHS & no Sb/Br); Manufacturer: Texas Instruments; PartNumber: TLC085AIDG4; CMRR(Min)(dB): 80; GBW(Typ)(MHz): 10; IIB(Max)(pA): 50; Iq per channel(Max)(mA): 2.5; Number of Channels: 4; Offset Drift(Typ)(uV/C): 1.2; Packing: TUBE; Rating: Catalog; Slew Rate(Typ)(V/us): 16; Sub Family: High Output Current Amplifier (>=50mA), Low Noise Amp (<=10nV/rtHz), Precision Amplifier; Total Supply Voltage(Min)(+5V is 5, +/-5V is 10): 4.5; Vio (25C)(Max)(mV): 1.4; DatasheetVersion: SLOS254F; PackageVersion: 4040047-6/M, 06/2011; PackageReference: D16; PackageDescription: 16-Pin Plastic Small Outline, Body 9.9 x 3.9 mm, Pitch 1.27 mm; Supplier 1: Digi-Key; Supplier Part Number 1: TLC085AIDG4-ND; Supplier 2: Mouser; Supplier Part Number 2: 595-TLC085AIDG4; Eco-Plan: Green (RoHS & no Sb/Br); Total Supply Voltage(Max)(+5V is 5, +/-5V is 10): 16; Mounting Technology: Surface Mount; Code_JEDEC: MS-012; ComponentLink1Description: Manufacturer URL; ComponentLink1URL: http://www.ti.com/; ComponentLink2Description: Datasheet; ComponentLink2URL: http://www.ti.com/lit/ds/symlink/tlc085a.pdf; ComponentLink3Description: Package Specification; ComponentLink3URL: http://www.ti.com/litv/pdf/mpds178g
footprint TI-D16_N (SOIC, 16-Leads, Body 9.9x3.9mm, Pitch 1.27mm, IPC Medium Density)
footprint TI-D16_L (SOIC, 16-Leads, Body 9.9x3.9mm, Pitch 1.27mm, IPC High Density)
footprint TI-D16_M (SOIC, 16-Leads, Body 9.9x3.9mm, Pitch 1.27mm, IPC Low Density)
pins: 1 OUT1 (hiz), 2 IN1- (in), 3 IN1+ (in), 4 VDD (power), 5 IN2+ (in), 6 IN2- (in), 7 OUT2 (hiz), 8 ~{SHDN1/2} (in), 9 ~{SHDN3/4} (in), 10 OUT3 (hiz), 11 IN3- (in), 12 IN3+ (in), 13 GND (power), 14 IN4+ (in), 15 IN4- (in), 16 OUT4 (hiz)

## TLC085AIDR
designator U?
Quad Wide Bandwidth High Output Drive Single Supply Operational Amplifier, 4.5 to 16 V, -40 to 125 degC, 16-pin SOIC (D16), Green (RoHS & no Sb/Br); Manufacturer: Texas Instruments; PartNumber: TLC085AIDR; CMRR(Min)(dB): 80; GBW(Typ)(MHz): 10; IIB(Max)(pA): 50; Iq per channel(Max)(mA): 2.5; Number of Channels: 4; Offset Drift(Typ)(uV/C): 1.2; Packing: LARGE T&R; Rating: Catalog; Slew Rate(Typ)(V/us): 16; Sub Family: High Output Current Amplifier (>=50mA), Low Noise Amp (<=10nV/rtHz), Precision Amplifier; Total Supply Voltage(Min)(+5V is 5, +/-5V is 10): 4.5; Vio (25C)(Max)(mV): 1.4; DatasheetVersion: SLOS254F; PackageVersion: 4040047-6/M, 06/2011; PackageReference: D16; PackageDescription: 16-Pin Plastic Small Outline, Body 9.9 x 3.9 mm, Pitch 1.27 mm; Supplier 1: Digi-Key; Supplier Part Number 1: TLC085AIDR-ND; Supplier 2: Mouser; Supplier Part Number 2: 595-TLC085AIDR; Eco-Plan: Green (RoHS & no Sb/Br); Total Supply Voltage(Max)(+5V is 5, +/-5V is 10): 16; Mounting Technology: Surface Mount; Code_JEDEC: MS-012; ComponentLink1Description: Manufacturer URL; ComponentLink1URL: http://www.ti.com/; ComponentLink2Description: Datasheet; ComponentLink2URL: http://www.ti.com/lit/ds/symlink/tlc085a.pdf; ComponentLink3Description: Package Specification; ComponentLink3URL: http://www.ti.com/litv/pdf/mpds178g
footprint TI-D16_N (SOIC, 16-Leads, Body 9.9x3.9mm, Pitch 1.27mm, IPC Medium Density)
footprint TI-D16_L (SOIC, 16-Leads, Body 9.9x3.9mm, Pitch 1.27mm, IPC High Density)
footprint TI-D16_M (SOIC, 16-Leads, Body 9.9x3.9mm, Pitch 1.27mm, IPC Low Density)
pins: 1 OUT1 (hiz), 2 IN1- (in), 3 IN1+ (in), 4 VDD (power), 5 IN2+ (in), 6 IN2- (in), 7 OUT2 (hiz), 8 ~{SHDN1/2} (in), 9 ~{SHDN3/4} (in), 10 OUT3 (hiz), 11 IN3- (in), 12 IN3+ (in), 13 GND (power), 14 IN4+ (in), 15 IN4- (in), 16 OUT4 (hiz)

## TLC085AIDRG4
designator U?
Quad Wide Bandwidth High Output Drive Single Supply Operational Amplifier, 4.5 to 16 V, -40 to 125 degC, 16-pin SOIC (D16), Green (RoHS & no Sb/Br); Manufacturer: Texas Instruments; PartNumber: TLC085AIDRG4; CMRR(Min)(dB): 80; GBW(Typ)(MHz): 10; IIB(Max)(pA): 50; Iq per channel(Max)(mA): 2.5; Number of Channels: 4; Offset Drift(Typ)(uV/C): 1.2; Packing: LARGE T&R; Rating: Catalog; Slew Rate(Typ)(V/us): 16; Sub Family: High Output Current Amplifier (>=50mA), Low Noise Amp (<=10nV/rtHz), Precision Amplifier; Total Supply Voltage(Min)(+5V is 5, +/-5V is 10): 4.5; Vio (25C)(Max)(mV): 1.4; DatasheetVersion: SLOS254F; PackageVersion: 4040047-6/M, 06/2011; PackageReference: D16; PackageDescription: 16-Pin Plastic Small Outline, Body 9.9 x 3.9 mm, Pitch 1.27 mm; Supplier 1: Digi-Key; Supplier Part Number 1: TLC085AIDRG4-ND; Supplier 2: Newark; Supplier Part Number 2: 33K7049; Supplier 3: Mouser; Supplier Part Number 3: 595-TLC085AIDRG4; Eco-Plan: Green (RoHS & no Sb/Br); Total Supply Voltage(Max)(+5V is 5, +/-5V is 10): 16; Mounting Technology: Surface Mount; Code_JEDEC: MS-012; ComponentLink1Description: Manufacturer URL; ComponentLink1URL: http://www.ti.com/; ComponentLink2Description: Datasheet; ComponentLink2URL: http://www.ti.com/lit/ds/symlink/tlc085a.pdf; ComponentLink3Description: Package Specification; ComponentLink3URL: http://www.ti.com/litv/pdf/mpds178g
footprint TI-D16_N (SOIC, 16-Leads, Body 9.9x3.9mm, Pitch 1.27mm, IPC Medium Density)
footprint TI-D16_L (SOIC, 16-Leads, Body 9.9x3.9mm, Pitch 1.27mm, IPC High Density)
footprint TI-D16_M (SOIC, 16-Leads, Body 9.9x3.9mm, Pitch 1.27mm, IPC Low Density)
pins: 1 OUT1 (hiz), 2 IN1- (in), 3 IN1+ (in), 4 VDD (power), 5 IN2+ (in), 6 IN2- (in), 7 OUT2 (hiz), 8 ~{SHDN1/2} (in), 9 ~{SHDN3/4} (in), 10 OUT3 (hiz), 11 IN3- (in), 12 IN3+ (in), 13 GND (power), 14 IN4+ (in), 15 IN4- (in), 16 OUT4 (hiz)

## TLC085AIN
designator U?
Quad Wide Bandwidth High Output Drive Single Supply Operational Amplifier, 4.5 to 16 V, -40 to 125 degC, 16-pin DIP (N16), Pb-Free (RoHS); Manufacturer: Texas Instruments; PartNumber: TLC085AIN; CMRR(Min)(dB): 80; GBW(Typ)(MHz): 10; IIB(Max)(pA): 50; Iq per channel(Max)(mA): 2.5; Number of Channels: 4; Offset Drift(Typ)(uV/C): 1.2; Packing: TUBE; Rating: Catalog; Slew Rate(Typ)(V/us): 16; Sub Family: High Output Current Amplifier (>=50mA), Low Noise Amp (<=10nV/rtHz), Precision Amplifier; Total Supply Voltage(Min)(+5V is 5, +/-5V is 10): 4.5; Vio (25C)(Max)(mV): 1.4; DatasheetVersion: SLOS254F; PackageVersion: 4040049/E, 12/2002; PackageReference: N16; PackageDescription: 16-Pin Plastic In-Line, Body 19.305 x 6.35 mm, Pitch 2.54 mm; Supplier 1: Digi-Key; Supplier Part Number 1: 296-7290-5-ND; Supplier 2: Newark; Supplier Part Number 2: 76C6780; Supplier 3: Mouser; Supplier Part Number 3: 595-TLC085AIN; Eco-Plan: Pb-Free (RoHS); Total Supply Voltage(Max)(+5V is 5, +/-5V is 10): 16; Mounting Technology: Through Hole; Code_JEDEC: MS-001; ComponentLink1Description: Manufacturer URL; ComponentLink1URL: http://www.ti.com/; ComponentLink2Description: Datasheet; ComponentLink2URL: http://www.ti.com/lit/ds/symlink/tlc085a.pdf; ComponentLink3Description: Package Specification; ComponentLink3URL: http://www.ti.com/litv/pdf/mpdi002c
footprint TI-N16 (DIP, 16-Leads, Body 19.305x6.35 mm, Pitch 2.54 mm)
pins: 1 OUT1 (hiz), 2 IN1- (in), 3 IN1+ (in), 4 VDD (power), 5 IN2+ (in), 6 IN2- (in), 7 OUT2 (hiz), 8 ~{SHDN1/2} (in), 9 ~{SHDN3/4} (in), 10 OUT3 (hiz), 11 IN3- (in), 12 IN3+ (in), 13 GND (power), 14 IN4+ (in), 15 IN4- (in), 16 OUT4 (hiz)

## TLC085AINE4
designator U?
Quad Wide Bandwidth High Output Drive Single Supply Operational Amplifier, 4.5 to 16 V, -40 to 125 degC, 16-pin DIP (N16), Pb-Free (RoHS); Manufacturer: Texas Instruments; PartNumber: TLC085AINE4; CMRR(Min)(dB): 80; GBW(Typ)(MHz): 10; IIB(Max)(pA): 50; Iq per channel(Max)(mA): 2.5; Number of Channels: 4; Offset Drift(Typ)(uV/C): 1.2; Packing: TUBE; Rating: Catalog; Slew Rate(Typ)(V/us): 16; Sub Family: High Output Current Amplifier (>=50mA), Low Noise Amp (<=10nV/rtHz), Precision Amplifier; Total Supply Voltage(Min)(+5V is 5, +/-5V is 10): 4.5; Vio (25C)(Max)(mV): 1.4; DatasheetVersion: SLOS254F; PackageVersion: 4040049/E, 12/2002; PackageReference: N16; PackageDescription: 16-Pin Plastic In-Line, Body 19.305 x 6.35 mm, Pitch 2.54 mm; Supplier 1: Digi-Key; Supplier Part Number 1: TLC085AINE4-ND; Supplier 2: Newark; Supplier Part Number 2: 24K5140; Supplier 3: Mouser; Supplier Part Number 3: 595-TLC085AINE4; Eco-Plan: Pb-Free (RoHS); Total Supply Voltage(Max)(+5V is 5, +/-5V is 10): 16; Mounting Technology: Through Hole; Code_JEDEC: MS-001; ComponentLink1Description: Manufacturer URL; ComponentLink1URL: http://www.ti.com/; ComponentLink2Description: Datasheet; ComponentLink2URL: http://www.ti.com/lit/ds/symlink/tlc085a.pdf; ComponentLink3Description: Package Specification; ComponentLink3URL: http://www.ti.com/litv/pdf/mpdi002c
footprint TI-N16 (DIP, 16-Leads, Body 19.305x6.35 mm, Pitch 2.54 mm)
pins: 1 OUT1 (hiz), 2 IN1- (in), 3 IN1+ (in), 4 VDD (power), 5 IN2+ (in), 6 IN2- (in), 7 OUT2 (hiz), 8 ~{SHDN1/2} (in), 9 ~{SHDN3/4} (in), 10 OUT3 (hiz), 11 IN3- (in), 12 IN3+ (in), 13 GND (power), 14 IN4+ (in), 15 IN4- (in), 16 OUT4 (hiz)

## TLC085AIPWP
designator U?
Quad Wide Bandwidth High Output Drive Single Supply Operational Amplifier, 4.5 to 16 V, -40 to 125 degC, 20-pin SOP (PWP20), Green (RoHS & no Sb/Br); Manufacturer: Texas Instruments; PartNumber: TLC085AIPWP; CMRR(Min)(dB): 80; GBW(Typ)(MHz): 10; IIB(Max)(pA): 50; Iq per channel(Max)(mA): 2.5; Number of Channels: 4; Offset Drift(Typ)(uV/C): 1.2; Packing: TUBE; Rating: Catalog; Slew Rate(Typ)(V/us): 16; Sub Family: High Output Current Amplifier (>=50mA), Low Noise Amp (<=10nV/rtHz), Precision Amplifier; Total Supply Voltage(Min)(+5V is 5, +/-5V is 10): 4.5; Vio (25C)(Max)(mV): 1.4; DatasheetVersion: SLOS254F; PackageVersion: 4073225-4/1, 05/2011; PackageReference: PWP20-3605X2005TP; PackageDescription: 20-Pin Plastic Small Outline, Body 4.4 x 6.5 mm, Pitch 0.65 mm; Supplier 1: Digi-Key; Supplier Part Number 1: 296-7291-5-ND; Supplier 2: Mouser; Supplier Part Number 2: 595-TLC085AIPWP; Eco-Plan: Green (RoHS & no Sb/Br); Total Supply Voltage(Max)(+5V is 5, +/-5V is 10): 16; Mounting Technology: Surface Mount; Code_JEDEC: MO-153; ComponentLink1Description: Manufacturer URL; ComponentLink1URL: http://www.ti.com/; ComponentLink2Description: Datasheet; ComponentLink2URL: http://www.ti.com/lit/ds/symlink/tlc085a.pdf; ComponentLink3Description: Package Specification; ComponentLink3URL: http://www.ti.com/litv/pdf/mhts001g
footprint TI-PWP20-3605X2005TP_N (SOP, 20-Leads, Body 6.5x4.4mm, Pitch 0.65mm, Thermal Pad 3.4x2.4mm, IPC Medium Density)
footprint TI-PWP20-3605X2005TP_L (SOP, 20-Leads, Body 6.5x4.4mm, Pitch 0.65mm, Thermal Pad 3.4x2.4mm, IPC High Density)
footprint TI-PWP20-3605X2005TP_M (SOP, 20-Leads, Body 6.5x4.4mm, Pitch 0.65mm, Thermal Pad 3.4x2.4mm, IPC Low Density)
pins: 1 OUT1 (hiz), 2 IN1- (in), 3 IN1+ (in), 4 VDD (power), 5 IN2+ (in), 6 IN2- (in), 7 OUT2 (hiz), 8 ~{SHDN1/2} (in), 9 NC, 10 NC, 11 NC, 12 NC, 13 ~{SHDN3/4} (in), 14 OUT3 (hiz), 15 IN3- (in), 16 IN3+ (in), 17 GND (power), 18 IN4+ (in), 19 IN4- (in), 20 OUT4 (hiz), 21 EP (power)

## TLC085AIPWPG4
designator U?
Quad Wide Bandwidth High Output Drive Single Supply Operational Amplifier, 4.5 to 16 V, -40 to 125 degC, 20-pin SOP (PWP20), Green (RoHS & no Sb/Br); Manufacturer: Texas Instruments; PartNumber: TLC085AIPWPG4; CMRR(Min)(dB): 80; GBW(Typ)(MHz): 10; IIB(Max)(pA): 50; Iq per channel(Max)(mA): 2.5; Number of Channels: 4; Offset Drift(Typ)(uV/C): 1.2; Packing: TUBE; Rating: Catalog; Slew Rate(Typ)(V/us): 16; Sub Family: High Output Current Amplifier (>=50mA), Low Noise Amp (<=10nV/rtHz), Precision Amplifier; Total Supply Voltage(Min)(+5V is 5, +/-5V is 10): 4.5; Vio (25C)(Max)(mV): 1.4; DatasheetVersion: SLOS254F; PackageVersion: 4073225-4/1, 05/2011; PackageReference: PWP20-3605X2005TP; PackageDescription: 20-Pin Plastic Small Outline, Body 4.4 x 6.5 mm, Pitch 0.65 mm; Supplier 1: Digi-Key; Supplier Part Number 1: TLC085AIPWPG4-ND; Supplier 2: Mouser; Supplier Part Number 2: 595-TLC085AIPWPG4; Eco-Plan: Green (RoHS & no Sb/Br); Total Supply Voltage(Max)(+5V is 5, +/-5V is 10): 16; Mounting Technology: Surface Mount; Code_JEDEC: MO-153; ComponentLink1Description: Manufacturer URL; ComponentLink1URL: http://www.ti.com/; ComponentLink2Description: Datasheet; ComponentLink2URL: http://www.ti.com/lit/ds/symlink/tlc085a.pdf; ComponentLink3Description: Package Specification; ComponentLink3URL: http://www.ti.com/litv/pdf/mhts001g
footprint TI-PWP20-3605X2005TP_N (SOP, 20-Leads, Body 6.5x4.4mm, Pitch 0.65mm, Thermal Pad 3.4x2.4mm, IPC Medium Density)
footprint TI-PWP20-3605X2005TP_L (SOP, 20-Leads, Body 6.5x4.4mm, Pitch 0.65mm, Thermal Pad 3.4x2.4mm, IPC High Density)
footprint TI-PWP20-3605X2005TP_M (SOP, 20-Leads, Body 6.5x4.4mm, Pitch 0.65mm, Thermal Pad 3.4x2.4mm, IPC Low Density)
pins: 1 OUT1 (hiz), 2 IN1- (in), 3 IN1+ (in), 4 VDD (power), 5 IN2+ (in), 6 IN2- (in), 7 OUT2 (hiz), 8 ~{SHDN1/2} (in), 9 NC, 10 NC, 11 NC, 12 NC, 13 ~{SHDN3/4} (in), 14 OUT3 (hiz), 15 IN3- (in), 16 IN3+ (in), 17 GND (power), 18 IN4+ (in), 19 IN4- (in), 20 OUT4 (hiz), 21 EP (power)

## TLC085CD
designator U?
Quad Wide Bandwidth High Output Drive Single Supply Operational Amplifier, 4.5 to 16 V, 0 to 70 degC, 16-pin SOIC (D16), Green (RoHS & no Sb/Br); Manufacturer: Texas Instruments; PartNumber: TLC085CD; CMRR(Min)(dB): 80; GBW(Typ)(MHz): 10; IIB(Max)(pA): 50; Iq per channel(Max)(mA): 2.5; Number of Channels: 4; Offset Drift(Typ)(uV/C): 1.2; Packing: TUBE; Rating: Catalog; Slew Rate(Typ)(V/us): 16; Sub Family: High Output Current Amplifier (>=50mA), Low Noise Amp (<=10nV/rtHz), Precision Amplifier; Total Supply Voltage(Min)(+5V is 5, +/-5V is 10): 4.5; Vio (25C)(Max)(mV): 1.9; DatasheetVersion: SLOS254F; PackageVersion: 4040047-6/M, 06/2011; PackageReference: D16; PackageDescription: 16-Pin Plastic Small Outline, Body 9.9 x 3.9 mm, Pitch 1.27 mm; Supplier 1: Digi-Key; Supplier Part Number 1: 296-2424-5-ND; Supplier 2: Mouser; Supplier Part Number 2: 595-TLC085CD; Eco-Plan: Green (RoHS & no Sb/Br); Total Supply Voltage(Max)(+5V is 5, +/-5V is 10): 16; Mounting Technology: Surface Mount; Code_JEDEC: MS-012; ComponentLink1Description: Manufacturer URL; ComponentLink1URL: http://www.ti.com/; ComponentLink2Description: Datasheet; ComponentLink2URL: http://www.ti.com/lit/ds/symlink/tlc085.pdf; ComponentLink3Description: Package Specification; ComponentLink3URL: http://www.ti.com/litv/pdf/mpds178g
footprint TI-D16_N (SOIC, 16-Leads, Body 9.9x3.9mm, Pitch 1.27mm, IPC Medium Density)
footprint TI-D16_L (SOIC, 16-Leads, Body 9.9x3.9mm, Pitch 1.27mm, IPC High Density)
footprint TI-D16_M (SOIC, 16-Leads, Body 9.9x3.9mm, Pitch 1.27mm, IPC Low Density)
pins: 1 OUT1 (hiz), 2 IN1- (in), 3 IN1+ (in), 4 VDD (power), 5 IN2+ (in), 6 IN2- (in), 7 OUT2 (hiz), 8 ~{SHDN1/2} (in), 9 ~{SHDN3/4} (in), 10 OUT3 (hiz), 11 IN3- (in), 12 IN3+ (in), 13 GND (power), 14 IN4+ (in), 15 IN4- (in), 16 OUT4 (hiz)

## TLC085CDG4
designator U?
Quad Wide Bandwidth High Output Drive Single Supply Operational Amplifier, 4.5 to 16 V, 0 to 70 degC, 16-pin SOIC (D16), Green (RoHS & no Sb/Br); Manufacturer: Texas Instruments; PartNumber: TLC085CDG4; CMRR(Min)(dB): 80; GBW(Typ)(MHz): 10; IIB(Max)(pA): 50; Iq per channel(Max)(mA): 2.5; Number of Channels: 4; Offset Drift(Typ)(uV/C): 1.2; Packing: TUBE; Rating: Catalog; Slew Rate(Typ)(V/us): 16; Sub Family: High Output Current Amplifier (>=50mA), Low Noise Amp (<=10nV/rtHz), Precision Amplifier; Total Supply Voltage(Min)(+5V is 5, +/-5V is 10): 4.5; Vio (25C)(Max)(mV): 1.9; DatasheetVersion: SLOS254F; PackageVersion: 4040047-6/M, 06/2011; PackageReference: D16; PackageDescription: 16-Pin Plastic Small Outline, Body 9.9 x 3.9 mm, Pitch 1.27 mm; Supplier 1: Digi-Key; Supplier Part Number 1: TLC085CDG4-ND; Supplier 2: Mouser; Supplier Part Number 2: 595-TLC085CDG4; Eco-Plan: Green (RoHS & no Sb/Br); Total Supply Voltage(Max)(+5V is 5, +/-5V is 10): 16; Mounting Technology: Surface Mount; Code_JEDEC: MS-012; ComponentLink1Description: Manufacturer URL; ComponentLink1URL: http://www.ti.com/; ComponentLink2Description: Datasheet; ComponentLink2URL: http://www.ti.com/lit/ds/symlink/tlc085.pdf; ComponentLink3Description: Package Specification; ComponentLink3URL: http://www.ti.com/litv/pdf/mpds178g
footprint TI-D16_N (SOIC, 16-Leads, Body 9.9x3.9mm, Pitch 1.27mm, IPC Medium Density)
footprint TI-D16_L (SOIC, 16-Leads, Body 9.9x3.9mm, Pitch 1.27mm, IPC High Density)
footprint TI-D16_M (SOIC, 16-Leads, Body 9.9x3.9mm, Pitch 1.27mm, IPC Low Density)
pins: 1 OUT1 (hiz), 2 IN1- (in), 3 IN1+ (in), 4 VDD (power), 5 IN2+ (in), 6 IN2- (in), 7 OUT2 (hiz), 8 ~{SHDN1/2} (in), 9 ~{SHDN3/4} (in), 10 OUT3 (hiz), 11 IN3- (in), 12 IN3+ (in), 13 GND (power), 14 IN4+ (in), 15 IN4- (in), 16 OUT4 (hiz)